# EAGLE library part TM21R-5C-88(50) (library enac_jevois)
8 way Cat6 shielded RJ45 PCB socket,1.5A Hirose Cat5e RJ45 Connector Socket, STP, Right Angle, Through Hole <https://componentsearchengine.com/Images/3/TM21R-5C-88%2850%29.jpg> Source: Datasheet <https://www.hirose.com/product/en/download_file/key_name/TM21R-5C-88-LP(50)/category/Drawing (2D)/doc_file_id/79045/?file_category_id=6&item_id=02222892050&is_series=>
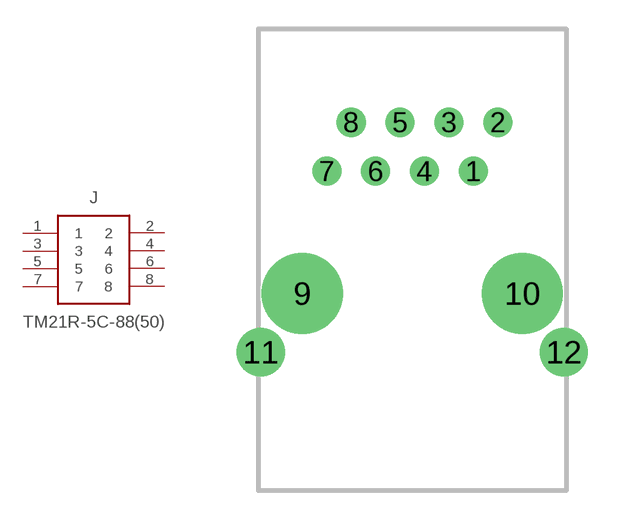
[diagram p0: symbol with the pads of TM21R-5C-88(50); footprint TM21R-5C-88(50)]

Designator prefix J

## TM21R-5C-88(50) (Description: 8 way Cat6 shielded RJ45 PCB socket,1.5A Hirose Cat5e RJ45 Connector Socket, STP, Right Angle, Through Hole; Height: mm; Manufacturer_Name: Hirose; Manufacturer_Part_Number: TM21R-5C-88(50); RS_Part_Number: 6256710; Supplier_Name: RS)  [TM21R-5C-88(50)]
1  1  pas
2  2  pas
3  3  pas
4  4  pas
5  5  pas
6  6  pas
7  7  pas
8  8  pas

## Footprint TM21R-5C-88(50) (pad centres in mm)
TM21R-5C-88(50)
drill 1 pad 1.5: 1 3.175,16.6; 2 4.445,19.14; 3 1.905,19.14; 4 0.635,16.6; 5 -0.635,19.14; 6 -1.905,16.6; 7 -4.445,16.6; 8 -3.175,19.14
drill 3.2 pad 3.2: 9 -5.715,10.25; 10 5.715,10.25
drill 1.6 pad 2.5: 11 -7.875,7.2; 12 7.875,7.2